# Altium schematic symbol library Schlib1.SchLib: 1 symbol
Pins are listed as number, name and electrical type; pins without a type are passive.

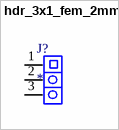
[diagram p0: symbol hdr_3x1_fem_2mm]

## hdr_3x1_fem_2mm
designator J?
Manufacturer: Sullins; Manufacturer Part Number: NPPN031FGGN-RC; Description: CONN RECEPT 2MM SINGLE R/A 3POS; Number of Positions: 3; Connector Type: Header,Socket; Pitch: 0.079inch; Supplier 1: Digi-Key; Stock 1: 6751; Pricing 1: 1=0.82, 10=0.721, 100=0.6217, 500=0.50868, 1000=0.45216, 5000=0.4082 (USD); Mount: Through Hole; Colour: Black; Contact Plating: Gold; Package Quantity: 1000; Number of Rows: 1; Packaging: Bulk; Termination: Solder; Supplier Part Number 1: S5752-03-ND
footprint HDR_3x1_FEM_2MM (A 3-pin header w. 2mm pitch, female)
pins: 1 RX "UART RX Pin", 2 TX "UART RX Pin", 3 GND "UART RX Pin"